# EAGLE library part TJA1051TK_3,118 (library TJA1051TK_3_118)
High-speed CAN transceiver Source: Datasheet <http://www.nxp.com/docs/en/data-sheet/TJA1051.pdf>
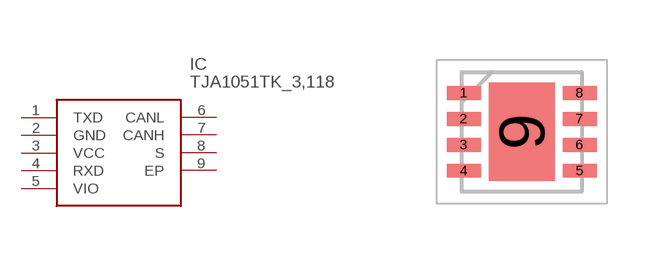
[diagram p0: symbol with the pads of SON65P300X300X100-9N; footprint SON65P300X300X100-9N]

Designator prefix IC

## TJA1051TK_3,118 (Description: High-speed CAN transceiver; Height: 1mm; Manufacturer_Name: NXP; Manufacturer_Part_Number: TJA1051TK/3,118; Mouser_Part_Number: 771-TJA1051TK/3118; Mouser_Price-Stock: https://www.mouser.co.uk/ProductDetail/NXP-Semiconductors/TJA1051TK-3118?qs=fhAOlxDPaYVrDQ2e4g%252BBJA%3D%3D)  [SON65P300X300X100-9N]
1  TXD
2  GND
3  VCC
4  RXD
5  VIO
6  CANL
7  CANH
8  S
9  EP

## Footprint SON65P300X300X100-9N (pad centres in mm)
hvson sot782-1 8 lead
smd 0.85 x 0.35: 1 -1.45,0.975; 2 -1.45,0.325; 3 -1.45,-0.325; 4 -1.45,-0.975; 5 1.45,-0.975; 6 1.45,-0.325; 7 1.45,0.325; 8 1.45,0.975
smd 1.65 x 2.45: 9 0,0